# Altium footprint library QFN-16(5.0X5.0).PcbLib: 1 footprints
Each footprint in its own frame and in the unit in brackets; x right, y up, seen from the top. Pads: shape width x height; smd on the part's side, far side on the other; paste and mask are expansions set on the pad; w line width, h text height; cw(c..) or ccw(c..) is an arc to the next point about the centre after c.
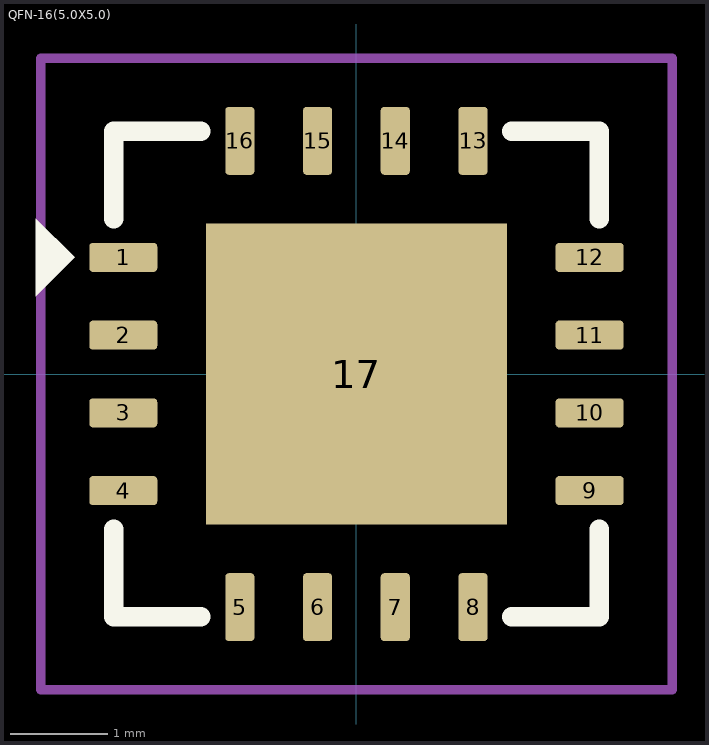
[diagram p0: the footprint, top view; thin cyan lines are the x and y axes]

## QFN-16(5.0X5.0) [mm]
pads (17):
  rrect25% 0.7x0.3 smd: 1(-2.4,1.2) 2(-2.4,0.4) 3(-2.4,-0.4) 4(-2.4,-1.2) 9(2.4,-1.2) 10(2.4,-0.4) 11(2.4,0.4) 12(2.4,1.2)
  rrect25% 0.3x0.7 smd: 5(-1.2,-2.4) 6(-0.4,-2.4) 7(0.4,-2.4) 8(1.2,-2.4) 13(1.2,2.4) 14(0.4,2.4) 15(-0.4,2.4) 16(-1.2,2.4)
  rect 3.1x3.1 smd paste-3: 17(0,0)
Top Overlay:
  region: -3.3,0.8 -3.3,1.6 -2.9,1.2
  lines w0.2: -2.5,-1.6 -2.5,-2.5 -1.6,-2.5 ; -2.5,1.6 -2.5,2.5 -1.6,2.5 ; 1.6,-2.5 2.5,-2.5 2.5,-1.6 ; 1.6,2.5 2.5,2.5 2.5,1.6
Top Paste:
  region: 0.98,-0.98 -0.98,-0.98 -0.98,0.98 0.98,0.98
Top Courtyard:
  lines w0.1: -3.25,-3.25 -3.25,3.25 3.25,3.25 3.25,-3.25 -3.25,-3.25
3D body "User Library-TQFN15_5x5x0_75.STEP": height 0.75, standoff 0, extent -2.5,-2.52 2.52,2.5